# EAGLE library part BTM870-B (library Deegou_IC)
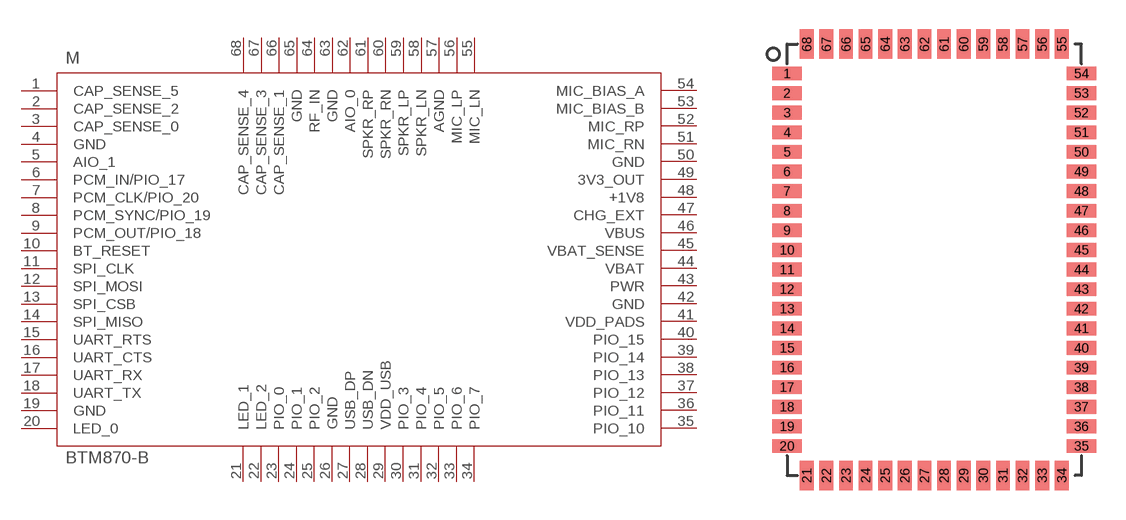
[diagram p75: symbol with the pads of BTM870-B; footprint BTM870-B]

Designator prefix M

## BTM870-B  [BTM870-B]
1  CAP_SENSE_5
2  CAP_SENSE_2
3  CAP_SENSE_0
4  GND
5  AIO_1
6  PCM_IN/PIO_17
7  PCM_CLK/PIO_20
8  PCM_SYNC/PIO_19
9  PCM_OUT/PIO_18
10  BT_RESET
11  SPI_CLK
12  SPI_MOSI
13  SPI_CSB
14  SPI_MISO
15  UART_RTS
16  UART_CTS
17  UART_RX
18  UART_TX
19  GND
20  LED_0
21  LED_1
22  LED_2
23  PIO_0
24  PIO_1
25  PIO_2
26  GND
27  USB_DP
28  USB_DN
29  VDD_USB
30  PIO_3
31  PIO_4
32  PIO_5
33  PIO_6
34  PIO_7
35  PIO_10
36  PIO_11
37  PIO_12
38  PIO_13
39  PIO_14
40  PIO_15
41  VDD_PADS
42  GND
43  PWR
44  VBAT
45  VBAT_SENSE
46  VBUS
47  CHG_EXT
48  +1V8
49  3V3_OUT
50  GND
51  MIC_RN
52  MIC_RP
53  MIC_BIAS_B
54  MIC_BIAS_A
55  MIC_LN
56  MIC_LP
57  AGND
58  SPKR_LN
59  SPKR_LP
60  SPKR_RN
61  SPKR_RP
62  AIO_0
63  GND
64  RF_IN
65  GND
66  CAP_SENSE_1
67  CAP_SENSE_3
68  CAP_SENSE_4

## Footprint BTM870-B (pad centres in mm)
smd 1.5 x 0.7: 1 0,20.5; 2 0,19.5; 3 0,18.5; 4 0,17.5; 5 0,16.5; 6 0,15.5; 7 0,14.5; 8 0,13.5; 9 0,12.5; 10 0,11.5; 11 0,10.5; 12 0,9.5; 13 0,8.5; 14 0,7.5; 15 0,6.5; 16 0,5.5; 17 0,4.5; 18 0,3.5; 19 0,2.5; 20 0,1.5; 35 15,1.5; 36 15,2.5; 37 15,3.5; 38 15,4.5; 39 15,5.5; 40 15,6.5; 41 15,7.5; 42 15,8.5; 43 15,9.5; 44 15,10.5; 45 15,11.5; 46 15,12.5; 47 15,13.5; 48 15,14.5; 49 15,15.5; 50 15,16.5; 51 15,17.5; 52 15,18.5; 53 15,19.5; 54 15,20.5
smd 0.7 x 1.5: 21 1,0; 22 2,0; 23 3,0; 24 4,0; 25 5,0; 26 6,0; 27 7,0; 28 8,0; 29 9,0; 30 10,0; 31 11,0; 32 12,0; 33 13,0; 34 14,0; 55 14,22; 56 13,22; 57 12,22; 58 11,22; 59 10,22; 60 9,22; 61 8,22; 62 7,22; 63 6,22; 64 5,22; 65 4,22; 66 3,22; 67 2,22; 68 1,22